# Altium schematic symbol library Isolator.SchLib: 324 symbols (part 4 of 4)
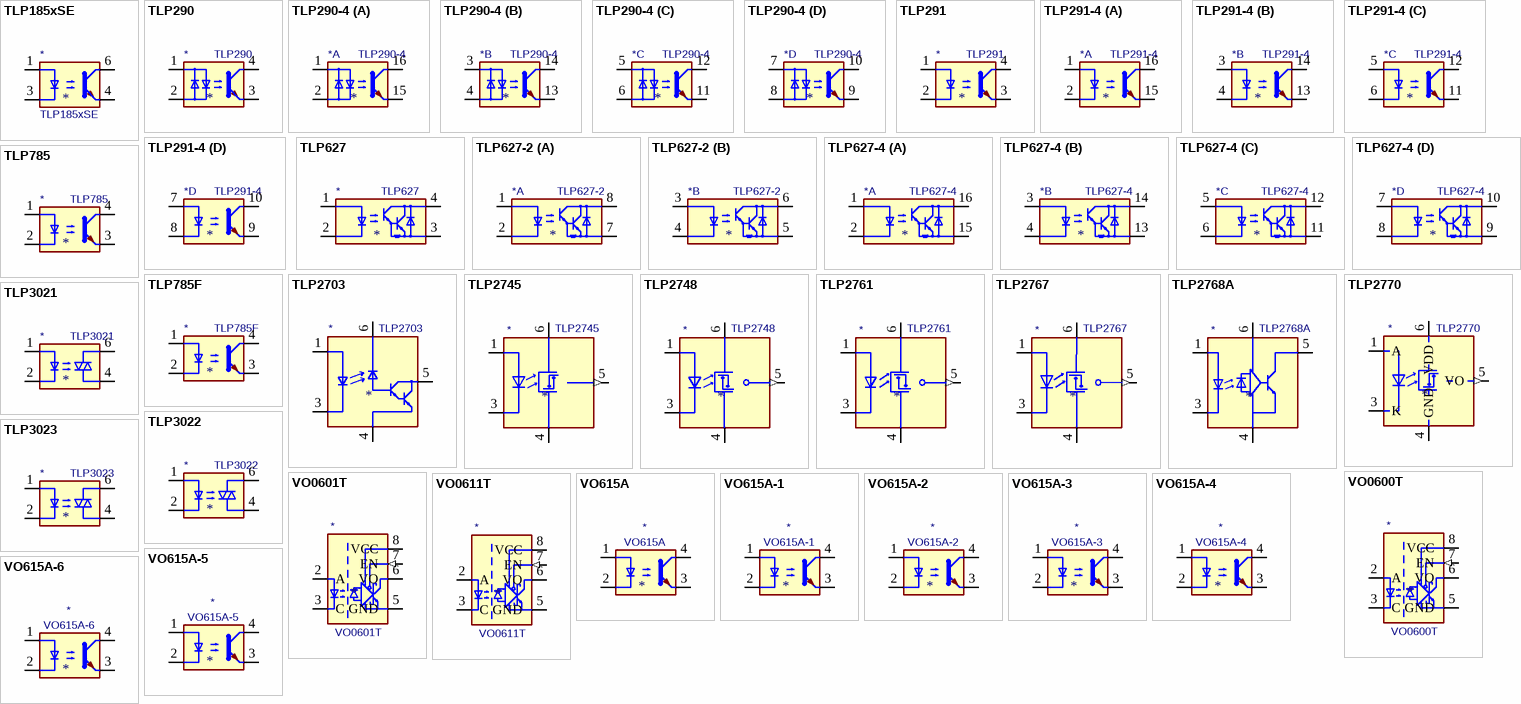
[diagram p12: symbols TLP185xSE to VO615A-6]

## TLP3023
designator *  value TLP3023
ki_keywords: Photo-Triac Opto Triac; ki_description: Photo-Triac, Vdrm 400V, Ift 5mA, DIP6; ki_fp_filters: Toshiba*11?7A9*; Footprint: Package_DIP:Toshiba_11-7A9; Supplier: https://toshiba.semicon-storage.com/info/docget.jsp?did=1421&prodName=TLP3021(S)
footprint Toshiba_11-7A9
pins: 1, 2, 3 NC (in) hidden, 4, 6

## VO0600T
designator *  value VO0600T
ki_keywords: High speed optically coupled gates enable; ki_description: Single High Speed CMOS Compatible Optocoupler with enable, dV/dt 1000/us, VCM 10, max 7V VCC, SOIC-8; ki_fp_filters: SOIC*3.9x4.9mm?P1.27mm*; Footprint: Package_SO:SOIC-8_3.9x4.9mm_P1.27mm; Supplier: http://www.vishay.com/doc?84607
footprint SOIC-8_3.9x4.9mm_P1.27mm
pins: 1 NC (in) hidden, 2 A, 3 C, 5 GND (power), 6 VO (oc), 7 EN (in), 8 VCC (power)

## VO0601T
designator *  value VO0601T
ki_keywords: High speed optically coupled gates enable; ki_description: Single High Speed CMOS Compatible Optocoupler with enable, dV/dt 5000/us, VCM 50, max 7V VCC, SOIC-8; ki_fp_filters: SOIC*3.9x4.9mm?P1.27mm*; Footprint: Package_SO:SOIC-8_3.9x4.9mm_P1.27mm; Supplier: http://www.vishay.com/doc?84607
footprint SOIC-8_3.9x4.9mm_P1.27mm
pins: 1 NC (in) hidden, 2 A, 3 C, 5 GND (power), 6 VO (oc), 7 EN (in), 8 VCC (power)

## VO0611T
designator *  value VO0611T
ki_keywords: High speed optically coupled gates enable; ki_description: Single High Speed CMOS Compatible Optocoupler with enable, dV/dt 15000/us, VCM 1000, max 7V VCC, SOIC-8; ki_fp_filters: SOIC*3.9x4.9mm?P1.27mm*; Footprint: Package_SO:SOIC-8_3.9x4.9mm_P1.27mm; Supplier: http://www.vishay.com/doc?84607
footprint SOIC-8_3.9x4.9mm_P1.27mm
pins: 1 NC (in) hidden, 2 A, 3 C, 5 GND (power), 6 VO (oc), 7 EN (in), 8 VCC (power)

## VO615A
designator *  value VO615A
ki_keywords: NPN DC Optocoupler; ki_description: DC Optocoupler, Vce 70V, CTR 50-600% @ 5mA, Viso 5000Vrms, DIP4; ki_fp_filters: DIP*W7.62mm* DIP*W10.16mm* SMDIP*W7.62mm* SMDIP*W9.53mm* SMDIP*W11.48mm*; Supplier: http://www.vishay.com/docs/81753/vo615a.pdf
pins: 1, 2, 3, 4

## VO615A-1
designator *  value VO615A-1
ki_keywords: NPN DC Optocoupler; ki_description: DC Optocoupler, Vce 70V, CTR 40-80% @ 10mA, Viso 5000Vrms, DIP4; ki_fp_filters: DIP*W7.62mm* DIP*W10.16mm* SMDIP*W7.62mm* SMDIP*W9.53mm* SMDIP*W11.48mm*; Supplier: http://www.vishay.com/docs/81753/vo615a.pdf
pins: 1, 2, 3, 4

## VO615A-2
designator *  value VO615A-2
ki_keywords: NPN DC Optocoupler; ki_description: DC Optocoupler, Vce 70V, CTR 63-125% @ 10mA, Viso 5000Vrms, DIP4; ki_fp_filters: DIP*W7.62mm* DIP*W10.16mm* SMDIP*W7.62mm* SMDIP*W9.53mm* SMDIP*W11.48mm*; Supplier: http://www.vishay.com/docs/81753/vo615a.pdf
pins: 1, 2, 3, 4

## VO615A-3
designator *  value VO615A-3
ki_keywords: NPN DC Optocoupler; ki_description: DC Optocoupler, Vce 70V, CTR 100-200% @ 10mA, Viso 5000Vrms, DIP4; ki_fp_filters: DIP*W7.62mm* DIP*W10.16mm* SMDIP*W7.62mm* SMDIP*W9.53mm* SMDIP*W11.48mm*; Supplier: http://www.vishay.com/docs/81753/vo615a.pdf
pins: 1, 2, 3, 4

## VO615A-4
designator *  value VO615A-4
ki_keywords: NPN DC Optocoupler; ki_description: DC Optocoupler, Vce 70V, CTR 160-320% @ 10mA, Viso 5000Vrms, DIP4; ki_fp_filters: DIP*W7.62mm* DIP*W10.16mm* SMDIP*W7.62mm* SMDIP*W9.53mm* SMDIP*W11.48mm*; Supplier: http://www.vishay.com/docs/81753/vo615a.pdf
pins: 1, 2, 3, 4

## VO615A-5
designator *  value VO615A-5
ki_keywords: NPN DC Optocoupler; ki_description: DC Optocoupler, Vce 70V, CTR 50-150% @ 5mA, Viso 5000Vrms, DIP4; ki_fp_filters: DIP*W7.62mm* DIP*W10.16mm* SMDIP*W7.62mm* SMDIP*W9.53mm* SMDIP*W11.48mm*; Supplier: http://www.vishay.com/docs/81753/vo615a.pdf
pins: 1, 2, 3, 4

## VO615A-6
designator *  value VO615A-6
ki_keywords: NPN DC Optocoupler; ki_description: DC Optocoupler, Vce 70V, CTR 100-300% @ 5mA, Viso 5000Vrms, DIP4; ki_fp_filters: DIP*W7.62mm* DIP*W10.16mm* SMDIP*W7.62mm* SMDIP*W9.53mm* SMDIP*W11.48mm*; Supplier: http://www.vishay.com/docs/81753/vo615a.pdf
pins: 1, 2, 3, 4

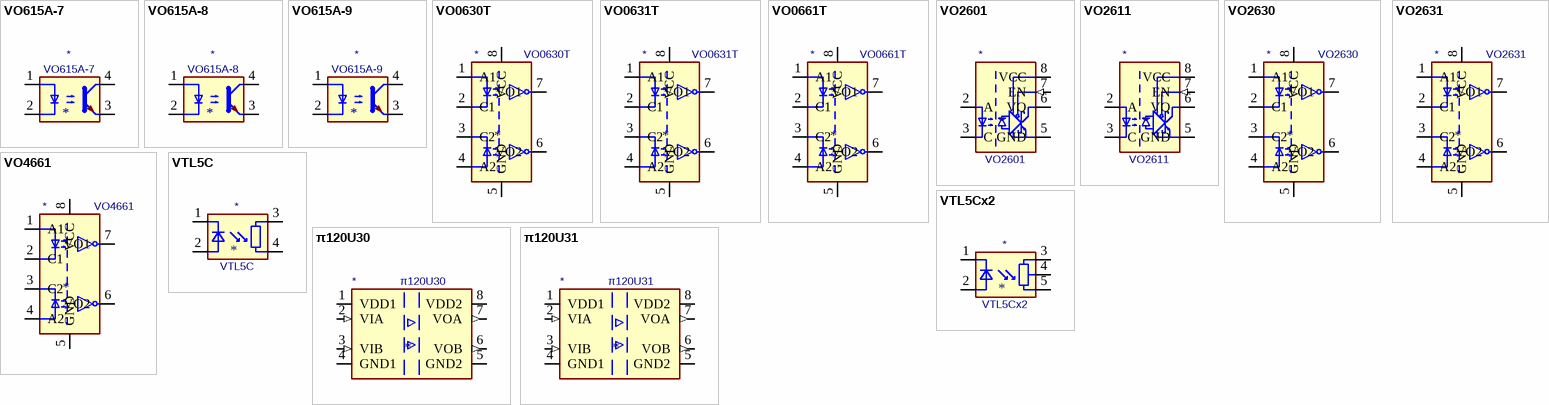
[diagram p9: symbols VO615A-7 to π120U31]

## VO615A-7
designator *  value VO615A-7
ki_keywords: NPN DC Optocoupler; ki_description: DC Optocoupler, Vce 70V, CTR 80-160% @ 5mA, Viso 5000Vrms, DIP4; ki_fp_filters: DIP*W7.62mm* DIP*W10.16mm* SMDIP*W7.62mm* SMDIP*W9.53mm* SMDIP*W11.48mm*; Supplier: http://www.vishay.com/docs/81753/vo615a.pdf
pins: 1, 2, 3, 4

## VO615A-8
designator *  value VO615A-8
ki_keywords: NPN DC Optocoupler; ki_description: DC Optocoupler, Vce 70V, CTR 130-260% @ 5mA, Viso 5000Vrms, DIP4; ki_fp_filters: DIP*W7.62mm* DIP*W10.16mm* SMDIP*W7.62mm* SMDIP*W9.53mm* SMDIP*W11.48mm*; Supplier: http://www.vishay.com/docs/81753/vo615a.pdf
pins: 1, 2, 3, 4

## VO615A-9
designator *  value VO615A-9
ki_keywords: NPN DC Optocoupler; ki_description: DC Optocoupler, Vce 70V, CTR 200-400% @ 5mA, Viso 5000Vrms, DIP4; ki_fp_filters: DIP*W7.62mm* DIP*W10.16mm* SMDIP*W7.62mm* SMDIP*W9.53mm* SMDIP*W11.48mm*; Supplier: http://www.vishay.com/docs/81753/vo615a.pdf
pins: 1, 2, 3, 4

## VO0630T
designator *  value VO0630T
ki_keywords: High speed optically coupled gates; ki_description: Dual High Speed CMOS Compatible Optocoupler, dV/dt 1000/us, VCM 50, max 7V VCC, SOIC-8; ki_fp_filters: SOIC*3.9x4.9mm?P1.27mm*; Footprint: Package_SO:SOIC-8_3.9x4.9mm_P1.27mm; Supplier: http://www.vishay.com/doc?84607
footprint SOIC-8_3.9x4.9mm_P1.27mm
pins: 1 A1, 2 C1, 3 C2, 4 A2, 5 GND (power), 6 VO2 (oc), 7 VO1 (oc), 8 VCC (power)

## VO0631T
designator *  value VO0631T
ki_keywords: High speed optically coupled gates; ki_description: Dual High Speed CMOS Compatible Optocoupler, dV/dt 5000/us, VCM 1000, max 7V VCC, SOIC-8; ki_fp_filters: SOIC*3.9x4.9mm?P1.27mm*; Footprint: Package_SO:SOIC-8_3.9x4.9mm_P1.27mm; Supplier: http://www.vishay.com/doc?84607
footprint SOIC-8_3.9x4.9mm_P1.27mm
pins: 1 A1, 2 C1, 3 C2, 4 A2, 5 GND (power), 6 VO2 (oc), 7 VO1 (oc), 8 VCC (power)

## VO0661T
designator *  value VO0661T
ki_keywords: High speed optically coupled gates; ki_description: Dual High Speed CMOS Compatible Optocoupler, dV/dt 15000/us, VCM 1000, max 7V VCC, SOIC-8; ki_fp_filters: SOIC*3.9x4.9mm?P1.27mm*; Footprint: Package_SO:SOIC-8_3.9x4.9mm_P1.27mm; Supplier: http://www.vishay.com/doc?84607
footprint SOIC-8_3.9x4.9mm_P1.27mm
pins: 1 A1, 2 C1, 3 C2, 4 A2, 5 GND (power), 6 VO2 (oc), 7 VO1 (oc), 8 VCC (power)

## VO2601
designator *  value VO2601
ki_keywords: High speed optically coupled gates enable; ki_description: Single High Speed CMOS Compatible Optocoupler with enable, dV/dt 5000/us, VCM 50, max 7V VCC, DIP-8; ki_fp_filters: DIP*W7.62mm*; Footprint: Package_DIP:DIP-8_W7.62mm; Supplier: https://www.vishay.com/doc?84732
footprint DIP-8_W7.62mm
pins: 1 NC (in) hidden, 2 A, 3 C, 5 GND (power), 6 VO (oc), 7 EN (in), 8 VCC (power)

## VO2611
designator *  value VO2611
ki_keywords: High speed optically coupled gates enable; ki_description: Single High Speed CMOS Compatible Optocoupler with enable, dV/dt 15000/us, VCM 1000, max 7V VCC, DIP-8; ki_fp_filters: DIP*W7.62mm*; Footprint: Package_DIP:DIP-8_W7.62mm; Supplier: https://www.vishay.com/doc?84732
footprint DIP-8_W7.62mm
pins: 1 NC (in) hidden, 2 A, 3 C, 5 GND (power), 6 VO (oc), 7 EN (in), 8 VCC (power)

## VO2630
designator *  value VO2630
ki_keywords: High speed optically coupled gates; ki_description: Dual High Speed CMOS Compatible Optocoupler, dV/dt 1000/us, VCM 10, max 7V VCC, DIP-8; ki_fp_filters: DIP*W7.62mm*; Footprint: Package_DIP:DIP-8_W7.62mm; Supplier: https://www.vishay.com/doc?84732
footprint DIP-8_W7.62mm
pins: 1 A1, 2 C1, 3 C2, 4 A2, 5 GND (power), 6 VO2 (oc), 7 VO1 (oc), 8 VCC (power)

## VO2631
designator *  value VO2631
ki_keywords: High speed optically coupled gates; ki_description: Dual High Speed CMOS Compatible Optocoupler, dV/dt 5000/us, VCM 50, max 7V VCC, DIP-8; ki_fp_filters: DIP*W7.62mm*; Footprint: Package_DIP:DIP-8_W7.62mm; Supplier: https://www.vishay.com/doc?84732
footprint DIP-8_W7.62mm
pins: 1 A1, 2 C1, 3 C2, 4 A2, 5 GND (power), 6 VO2 (oc), 7 VO1 (oc), 8 VCC (power)

## VO4661
designator *  value VO4661
ki_keywords: High speed optically coupled gates; ki_description: Dual High Speed CMOS Compatible Optocoupler, dV/dt 15000/us, VCM 1000, max 7V VCC, DIP-8; ki_fp_filters: DIP*W7.62mm*; Footprint: Package_DIP:DIP-8_W7.62mm; Supplier: https://www.vishay.com/doc?84732
footprint DIP-8_W7.62mm
pins: 1 A1, 2 C1, 3 C2, 4 A2, 5 GND (power), 6 VO2 (oc), 7 VO1 (oc), 8 VCC (power)

## VTL5C
designator *  value VTL5C
ki_keywords: vactrol; ki_description: Low Cost Axial Vactrols; ki_fp_filters: PerkinElmer*VTL5C*; Footprint: OptoDevice:PerkinElmer_VTL5C; Supplier: http://www.qsl.net/wa1ion/vactrol/vactrol.pdf
footprint PerkinElmer_VTL5C
pins: 1 -, 2 +, 3, 4

## VTL5Cx2
designator *  value VTL5Cx2
ki_keywords: vactrol; ki_description: Dual Element Axial Vactrols; ki_fp_filters: PerkinElmer*VTL5C*; Footprint: OptoDevice:PerkinElmer_VTL5Cx2; Supplier: http://www.alliedelec.com/m/d/ecb1ed91959ae54d97cf67f5103d9b2b.pdf
footprint PerkinElmer_VTL5Cx2
pins: 1 -, 2 +, 3, 4, 5

## π120U30
designator *  value π120U30
ki_keywords: Dual-channel digital isolator pi120U30; ki_description: Dual-channel digital isolator, 3V/5V level translation, Safe LOW, SOIC-8; ki_fp_filters: SOIC*3.9x4.9mm*P1.27mm*; Footprint: Package_SO:SOIC-8_3.9x4.9mm_P1.27mm; Supplier: http://www.rpsemi.com/public/doc/2Pai_%CF%8012xUxx_20200416_EN.pdf
footprint SOIC-8_3.9x4.9mm_P1.27mm
pins: 1 VDD1 (power), 2 VIA (in), 3 VIB (in), 4 GND1 (power), 5 GND2 (power), 6 VOB (out), 7 VOA (out), 8 VDD2 (power)

## π120U31
designator *  value π120U31
ki_keywords: Dual-channel digital isolator pi120U31; ki_description: Dual-channel digital isolator, 3V/5V level translation, Safe HIGH, SOIC-8; ki_fp_filters: SOIC*3.9x4.9mm*P1.27mm*; Footprint: Package_SO:SOIC-8_3.9x4.9mm_P1.27mm; Supplier: http://www.rpsemi.com/public/doc/2Pai_%CF%8012xUxx_20200416_EN.pdf
footprint SOIC-8_3.9x4.9mm_P1.27mm
pins: 1 VDD1 (power), 2 VIA (in), 3 VIB (in), 4 GND1 (power), 5 GND2 (power), 6 VOB (out), 7 VOA (out), 8 VDD2 (power)